# Altium footprint library OASIS_COMPONENTS_FOOTPRINTS.PcbLib: 59 footprints (part 1 of 4)
Each footprint in its own frame and in the unit in brackets; x right, y up, seen from the top. Pads: shape width x height; smd on the part's side, far side on the other; paste and mask are expansions set on the pad; w line width, h text height; cw(c..) or ccw(c..) is an arc to the next point about the centre after c.
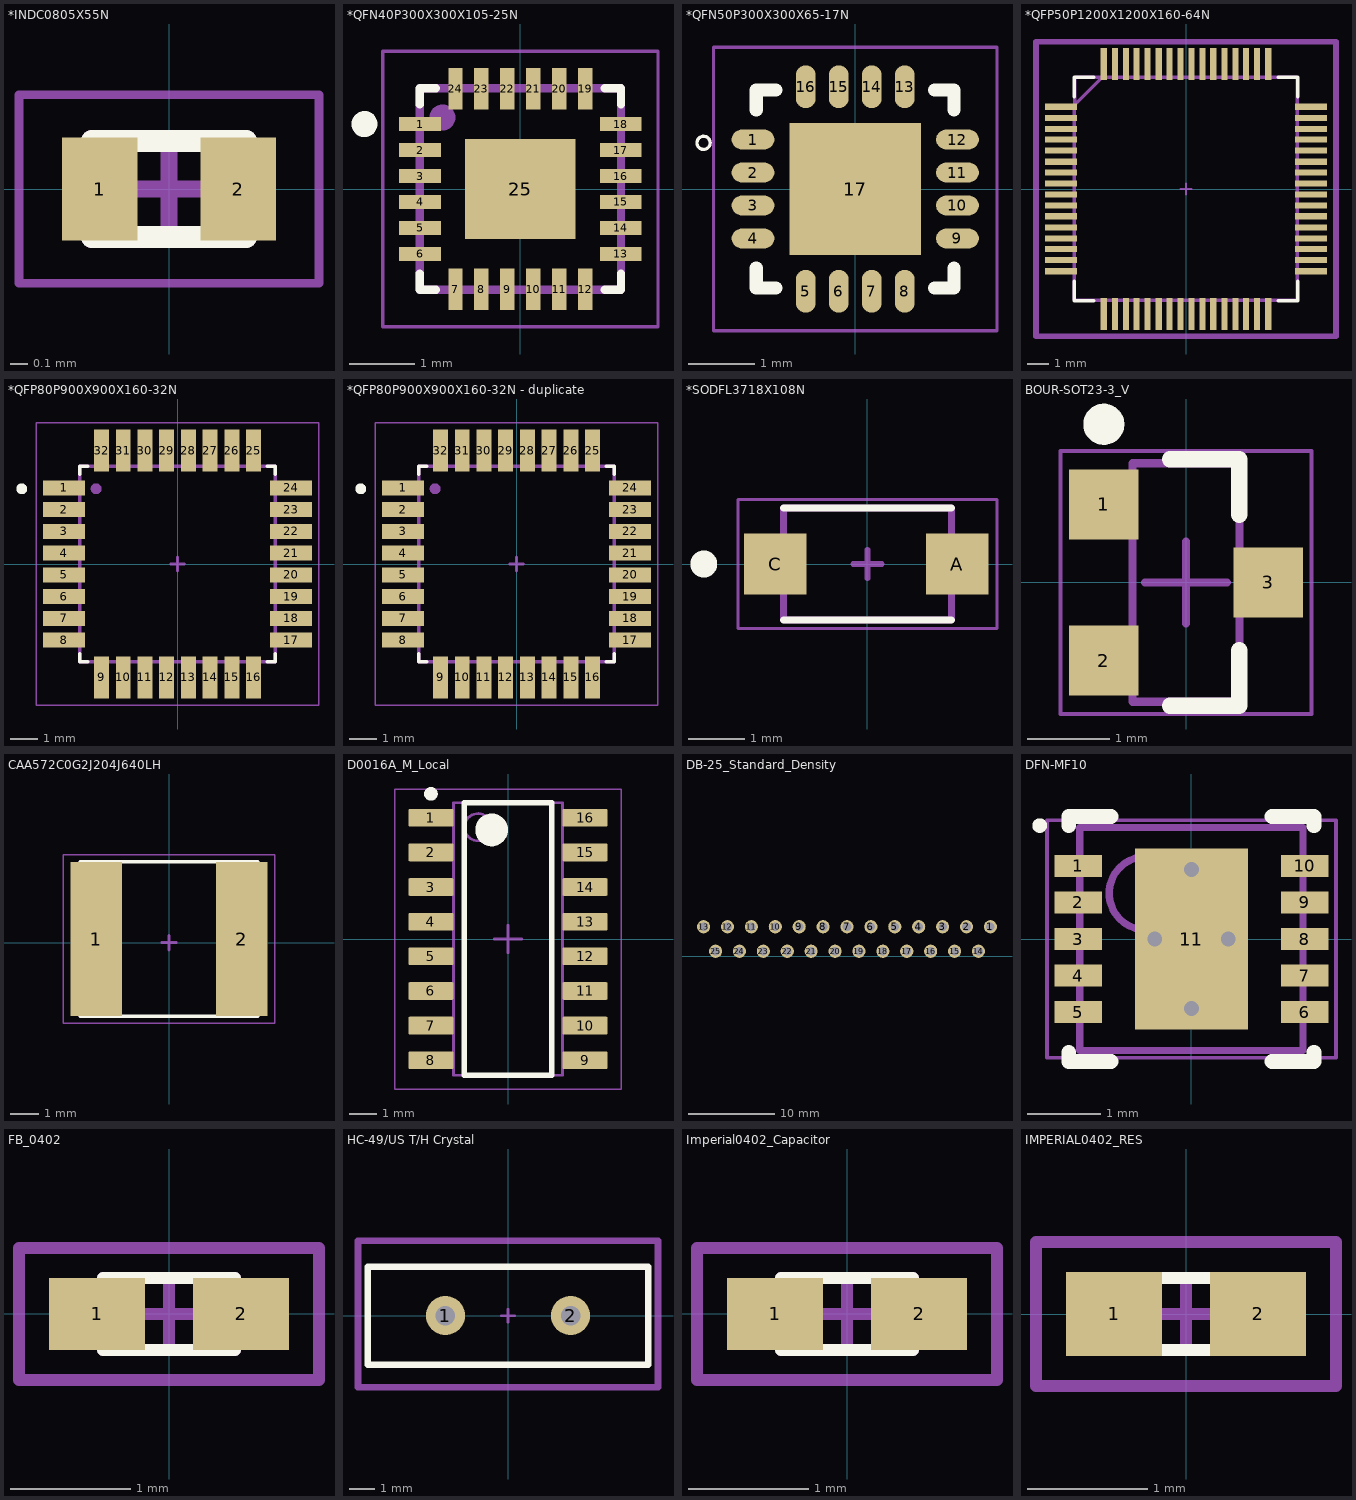
[diagram p0: the footprints below, top view; thin cyan lines are the x and y axes]

## *INDC0805X55N [mm]
pads (2):
  rect 0.44x0.6 smd: 1(-0.405,0) 2(0.405,0)
Top Overlay:
  lines w0.127: -0.45,-0.28 0.45,-0.28 ; -0.45,0.28 0.45,0.28
Bottom 3D Body:
  lines w0.127: -0.45,-0.28 -0.45,0.28 0.45,0.28 0.45,-0.28 -0.45,-0.28
Courtyard:
  lines w0.05: -0.875,-0.55 0.875,-0.55 0.875,0.55 -0.875,0.55 -0.875,-0.55
Component Center:
  lines w0.1: -0.254,0 0.254,0 ; 0,0 0,-0.254 0,0.254
Component Outline:
  lines w0.127: -0.45,-0.28 -0.45,0.28 ; 0.45,-0.28 0.45,0.28
3D body: height 1.1, standoff 0, extent -0.45,-0.28 0.45,0.28

## *QFN40P300X300X105-25N [mm]
pads (25):
  rect 0.64x0.22 smd: 1(-1.545,1) 2(-1.545,0.6) 3(-1.545,0.2) 4(-1.545,-0.2) 5(-1.545,-0.6) 6(-1.545,-1) 13(1.545,-1) 14(1.545,-0.6) 15(1.545,-0.2) 16(1.545,0.2) 17(1.545,0.6) 18(1.545,1)
  rect 0.22x0.64 smd: 7(-1,-1.545) 8(-0.6,-1.545) 9(-0.2,-1.545) 10(0.2,-1.545) 11(0.6,-1.545) 12(1,-1.545) 19(1,1.545) 20(0.6,1.545) 21(0.2,1.545) 22(-0.2,1.545) 23(-0.6,1.545) 24(-1,1.545)
  rect 1.7x1.54 smd: 25(0,0)
Top Overlay:
  circle w0.2: c-2.4,1 r0.1
  lines w0.127: -1.55,-1.3 -1.55,-1.55 -1.3,-1.55 ; -1.55,1.3 -1.55,1.55 -1.3,1.55 ; 1.3,-1.55 1.55,-1.55 1.55,-1.3 ; 1.3,1.55 1.55,1.55 1.55,1.3
Top Paste:
  region: -0.691,0.61 -0.08,0.61 -0.08,0.08 -0.691,0.08
  region: 0.08,0.61 0.69,0.61 0.69,0.08 0.08,0.08
  region: -0.691,-0.08 -0.08,-0.08 -0.08,-0.611 -0.691,-0.611
  region: 0.08,-0.08 0.69,-0.08 0.69,-0.611 0.08,-0.611
Courtyard:
  lines w0.05: -2.12,-2.12 -2.12,2.12 2.12,2.12 2.12,-2.12 -2.12,-2.12
Component Center:
  lines w0.1: -0.254,0 0.254,0 ; 0,0 0,-0.254 0,0.254
Component Outline:
  circle w0.2: c-1.2,1.1 r0.1
  circle w0.2: c-1.2,1.1 r0.1
  lines w0.127: -1.55,-1.55 1.55,-1.55 ; -1.55,-1.55 -1.55,1.55 ; -1.55,-1.55 1.55,-1.55 ; -1.55,-1.55 -1.55,1.55 ; -1.55,1.55 1.55,1.55 ; -1.55,1.55 1.55,1.55 ; 1.55,-1.55 1.55,1.55 ; 1.55,-1.55 1.55,1.55
3D body: height 1.1, standoff 0, extent 5.35,2.425 5.35,2.425
3D body "User Library-MPU9250.step": height 1, standoff -0.05, extent -1.51,-1.525 1.51,1.495

## *QFN50P300X300X65-17N [mm]
pads (17):
  oval 0.65x0.3 smd: 1(-1.55,0.75) 2(-1.55,0.25) 3(-1.55,-0.25) 4(-1.55,-0.75) 9(1.55,-0.75) 10(1.55,-0.25) 11(1.55,0.25) 12(1.55,0.75)
  oval 0.3x0.65 smd: 5(-0.75,-1.55) 6(-0.25,-1.55) 7(0.25,-1.55) 8(0.75,-1.55) 13(0.75,1.55) 14(0.25,1.55) 15(-0.25,1.55) 16(-0.75,1.55)
  rect 2x2 smd: 17(0,0)
Top Overlay:
  circle w0.05: c-2.3,0.7 r0.1
  lines w0.2: -1.5,-1.2 -1.5,-1.5 -1.2,-1.5 ; -1.5,1.2 -1.5,1.5 -1.2,1.5 ; 1.2,-1.5 1.5,-1.5 1.5,-1.2 ; 1.2,1.5 1.5,1.5 1.5,1.2
Courtyard:
  lines w0.05: -2.15,-2.15 -2.15,2.15 2.15,2.15 2.15,-2.15 -2.15,-2.15
Component Center:
  lines w0.1: -0.254,0 0.254,0 ; 0,0 0,-0.254 0,0.254
3D body "User Library-QFN50P300X300-6x2.step": height 1.1, standoff 0, extent -1.5,-1.55 1.5,1.45

## *QFP50P1200X1200X160-64N [mil]
pads (64):
  rect 58x11 smd: 1(-225,148) 2(-225,128) 3(-225,108) 4(-225,89) 5(-225,69) 6(-225,49) 7(-225,30) 8(-225,10) 9(-225,-10) 10(-225,-30) 11(-225,-49) 12(-225,-69) 13(-225,-89) 14(-225,-108) 15(-225,-128) 16(-225,-148) 33(225,-148) 34(225,-128) 35(225,-108) 36(225,-89) 37(225,-69) 38(225,-49) 39(225,-30) 40(225,-10) 41(225,10) 42(225,30) 43(225,49) 44(225,69) 45(225,89) 46(225,108) 47(225,128) 48(225,148)
  rect 11x58 smd: 17(-148,-225) 18(-128,-225) 19(-108,-225) 20(-89,-225) 21(-69,-225) 22(-49,-225) 23(-30,-225) 24(-10,-225) 25(10,-225) 26(30,-225) 27(49,-225) 28(69,-225) 29(89,-225) 30(108,-225) 31(128,-225) 32(148,-225) 49(148,225) 50(128,225) 51(108,225) 52(89,225) 53(69,225) 54(49,225) 55(30,225) 56(10,225) 57(-10,225) 58(-30,225) 59(-49,225) 60(-69,225) 61(-89,225) 62(-108,225) 63(-128,225) 64(-148,225)
Top Overlay:
  lines w6: -201,-166 -201,-201 -166,-201 ; -201,166 -201,201 -166,201 ; 166,-201 201,-201 201,-166 ; 166,201 201,201 201,166
Courtyard:
  lines w10: -270,-265 -270,265 270,265 270,-265 -270,-265
Component Center:
  lines w3.94: -10,0 10,0 ; 0,0 0,-10 0,10
Component Outline:
  lines w5.98: -201,-199 -200,-200 200,-200 200,200 199,201 -151,201 -199,201 -200,200 -200,152 -201,151 -201,-199
  lines w6: -201,151 -151,201
3D body: height 10, standoff 0, extent -64.96,9.84 -64.96,9.84
3D body "User Library-LQFP64-2.STEP": height 63.78, standoff -0.28, extent -239.04,-240.02 239.05,238.06

## *QFP80P900X900X160-32N [mm]
pads (32):
  rect 1.56x0.55 smd: 1(-4.18,2.8) 2(-4.18,2) 3(-4.18,1.2) 4(-4.18,0.4) 5(-4.18,-0.4) 6(-4.18,-1.2) 7(-4.18,-2) 8(-4.18,-2.8) 17(4.18,-2.8) 18(4.18,-2) 19(4.18,-1.2) 20(4.18,-0.4) 21(4.18,0.4) 22(4.18,1.2) 23(4.18,2) 24(4.18,2.8)
  rect 0.55x1.56 smd: 9(-2.8,-4.18) 10(-2,-4.18) 11(-1.2,-4.18) 12(-0.4,-4.18) 13(0.4,-4.18) 14(1.2,-4.18) 15(2,-4.18) 16(2.8,-4.18) 25(2.8,4.18) 26(2,4.18) 27(1.2,4.18) 28(0.4,4.18) 29(-0.4,4.18) 30(-1.2,4.18) 31(-2,4.18) 32(-2.8,4.18)
Top Overlay:
  circle w0.2: c-5.74,2.77 r0.1
  lines w0.127: -3.6,-3.3 -3.6,-3.6 -3.3,-3.6 ; -3.6,3.3 -3.6,3.6 -3.3,3.6 ; 3.3,-3.6 3.6,-3.6 3.6,-3.3 ; 3.3,3.6 3.6,3.6 3.6,3.3
Courtyard:
  lines w0.05: -5.21,-5.21 5.21,-5.21 5.21,5.21 -5.21,5.21 -5.21,-5.21
Component Center:
  lines w0.1: -0.254,0 0.254,0 ; 0,0 0,-0.254 0,0.254
Component Outline:
  circle w0.2: c-3,2.77 r0.1
  lines w0.127: -3.6,-3.6 -3.6,3.6 ; -3.6,-3.6 -3.6,3.6 ; -3.6,-3.6 3.6,-3.6 ; -3.6,-3.6 3.6,-3.6 ; -3.6,3.6 3.6,3.6 ; -3.6,3.6 3.6,3.6 ; 3.6,-3.6 3.6,3.6 ; 3.6,-3.6 3.6,3.6
3D body: height 0.76, standoff 0, extent -3.556,-3.556 3.556,3.556

## *QFP80P900X900X160-32N - duplicate [mm]
pads (32):
  rect 1.56x0.55 smd: 1(-4.18,2.8) 2(-4.18,2) 3(-4.18,1.2) 4(-4.18,0.4) 5(-4.18,-0.4) 6(-4.18,-1.2) 7(-4.18,-2) 8(-4.18,-2.8) 17(4.18,-2.8) 18(4.18,-2) 19(4.18,-1.2) 20(4.18,-0.4) 21(4.18,0.4) 22(4.18,1.2) 23(4.18,2) 24(4.18,2.8)
  rect 0.55x1.56 smd: 9(-2.8,-4.18) 10(-2,-4.18) 11(-1.2,-4.18) 12(-0.4,-4.18) 13(0.4,-4.18) 14(1.2,-4.18) 15(2,-4.18) 16(2.8,-4.18) 25(2.8,4.18) 26(2,4.18) 27(1.2,4.18) 28(0.4,4.18) 29(-0.4,4.18) 30(-1.2,4.18) 31(-2,4.18) 32(-2.8,4.18)
Top Overlay:
  circle w0.2: c-5.74,2.77 r0.1
  lines w0.127: -3.6,-3.3 -3.6,-3.6 -3.3,-3.6 ; -3.6,3.3 -3.6,3.6 -3.3,3.6 ; 3.3,-3.6 3.6,-3.6 3.6,-3.3 ; 3.3,3.6 3.6,3.6 3.6,3.3
Bottom 3D Body:
  circle w0.2: c-3,2.77 r0.1
Courtyard:
  lines w0.05: -5.21,-5.21 5.21,-5.21 5.21,5.21 -5.21,5.21 -5.21,-5.21
Component Center:
  lines w0.1: -0.254,0 0.254,0 ; 0,0 0,-0.254 0,0.254
Component Outline:
  circle w0.2: c-3,2.77 r0.1
  lines w0.127: -3.6,-3.6 -3.6,3.6 ; -3.6,-3.6 -3.6,3.6 ; -3.6,-3.6 3.6,-3.6 ; -3.6,-3.6 3.6,-3.6 ; -3.6,3.6 3.6,3.6 ; -3.6,3.6 3.6,3.6 ; 3.6,-3.6 3.6,3.6 ; 3.6,-3.6 3.6,3.6
3D body: height 1.1, standoff 0, extent -3.6,-3.6 3.6,3.6

## *SODFL3718X108N [mm]
pads (2):
  rect 1.12x1.08 smd: A(1.6,0) C(-1.645,0)
Top Overlay:
  circle w0.24: c-2.921,0 r0.12
  lines w0.127: -1.5,-1 1.5,-1 ; -1.5,1 1.5,1
Courtyard:
  lines w0.05: -2.31,-1.15 2.31,-1.15 2.31,1.15 -2.31,1.15 -2.31,-1.15
Component Center:
  lines w0.1: -0.254,0 0.254,0 ; 0,0 0,-0.254 0,0.254
Component Outline:
  lines w0.127: -1.5,-1 -1.5,1 1.5,1 1.5,-1 -1.5,-1
3D body: height 0.97, standoff 0, extent -1.524,-1.016 -1.143,1.016
3D body: height 0.97, standoff 0, extent -1.143,-1.016 1.524,1.016

## BOUR-SOT23-3_V [mm] "SOT23, 3-Leads, Body 2.9x1.3mm, Pitch 0.95mm"
height 1.17
pads (3):
  rect 0.85x0.85 smd: 1(-1,0.95) 2(-1,-0.95) 3(1,0)
Top Overlay:
  circle w0.25: c-1,1.925 r0.125
  lines w0.2: -0.195,-1.5 0.65,-1.5 0.65,-0.825 ; -0.195,1.5 0.65,1.5 0.65,0.825
Courtyard:
  lines w0.05: -1.525,-1.6 -1.525,1.6 1.525,1.6 1.525,-1.6 -1.525,-1.6
Component Center:
  lines w0.1: -0.5,0 0.5,0 ; 0,-0.5 0,0.5
Component Outline:
  lines w0.1: -0.65,-1.45 -0.65,1.45 0.65,1.45 0.65,-1.45 -0.65,-1.45
3D body: height 1.17, standoff 0.02, extent -0.65,-1.45 0.65,1.45

## CAA572C0G2J204J640LH [mm] "2220 Footprint for CAA572C0G2J204J640LH"
pads (2):
  rect 1.81x5.41 smd: 1(-2.55,0.127) 2(2.55,0.127)
Top Overlay:
  lines w0.127: -1.33,-2.573 1.33,-2.573 ; -1.33,2.827 1.33,2.827 ; -3.1,-2.573 3.1,-2.573 -3.1,-2.573 ; -3.1,2.827 3.1,2.827 -3.1,2.827
Bottom 3D Body:
  lines w0.127: -3.1,-2.573 -3.1,2.827 -3.1,-2.573 ; 3.1,-2.573 3.1,2.827 3.1,-2.573
Courtyard:
  lines w0.05: -3.703,-2.827 3.703,-2.827 3.703,3.081 -3.703,3.081 -3.703,-2.827
Component Center:
  lines w0.1: -0.254,0 0.254,0 ; 0,0 0,-0.254 0,0.254

## D0016A_M_Local [mm] "SOIC, 16-Leads, Body 10x4mm, Pitch 1.27mm, IPC Low Density"
height 1.75
pads (16):
  rrect15% 1.65x0.65 smd: 1(-2.825,4.445) 2(-2.825,3.175) 3(-2.825,1.905) 4(-2.825,0.635) 5(-2.825,-0.635) 6(-2.825,-1.905) 7(-2.825,-3.175) 8(-2.825,-4.445) 9(2.825,-4.445) 10(2.825,-3.175) 11(2.825,-1.905) 12(2.825,-0.635) 13(2.825,0.635) 14(2.825,1.905) 15(2.825,3.175) 16(2.825,4.445)
Top Overlay:
  circle w0.6: c-0.6,4 r0.3
  circle w0.25: c-2.825,5.32 r0.125
  lines w0.2: -1.6,-5 1.6,-5 1.6,5 -1.6,5 -1.6,-5
  text ".Designator" at -3.937,6.35 h0.8
Courtyard:
  lines w0.05: -4.15,-5.5 4.15,-5.5 4.15,5.5 -4.15,5.5 -4.15,-5.5
Component Center:
  lines w0.1: -0.5,0 0.5,0 ; 0,-0.5 0,0.5
Component Outline:
  circle w0.1: c-1.1,4.1 r0.5
  lines w0.1: -2,-5 -2,5 2,5 2,-5 -2,-5
3D body "SOIC-16akaD0016AakaM16A.stp": height 1.59, standoff -0.01, extent -2.997,-4.953 2.997,4.953

## DB-25_Standard_Density [mm] "Right angle DB-25 standard density connector"
pads (25):
  round 1.524 hole 1: 1(43.14,3.42) 2(40.37,3.42) 3(37.6,3.42) 4(34.83,3.42) 5(32.06,3.42) 6(29.29,3.42) 7(26.52,3.42) 8(23.75,3.42) 9(20.98,3.42) 10(18.21,3.42) 11(15.44,3.42) 12(12.67,3.42) 13(9.9,3.42) 14(41.755,0.58) 15(38.985,0.58) 16(36.215,0.58) 17(33.445,0.58) 18(30.675,0.58) 19(27.905,0.58) 20(25.135,0.58) 21(22.365,0.58) 22(19.595,0.58) 23(16.825,0.58) 24(14.055,0.58) 25(11.285,0.58)

## DFN-MF10 [mm] "SON, 10-Leads, Body 3x3mm, Pitch 0.5mm, Microchip Recommended"
height 1
pads (11):
  rect 0.65x0.3 smd: 1(-1.55,1) 2(-1.55,0.5) 3(-1.55,0) 4(-1.55,-0.5) 5(-1.55,-1) 6(1.55,-1) 7(1.55,-0.5) 8(1.55,0) 9(1.55,0.5) 10(1.55,1)
  rect 1.55x2.48 smd: 11(0,0)
via 0,-0.95 diameter 0.5 hole 0.2
via 0,0.95 diameter 0.5 hole 0.2
via 0.5,0 diameter 0.5 hole 0.2
via -0.5,0 diameter 0.5 hole 0.2
Top Overlay:
  circle w0.1: c-2.075,1.55 r0.05
  lines w0.2: -1.675,-1.55 -1.675,-1.675 -1.1,-1.675 ; -1.675,1.55 -1.675,1.675 -1.1,1.675 ; 1.1,-1.675 1.675,-1.675 1.675,-1.55 ; 1.1,1.675 1.675,1.675 1.675,1.55
Courtyard:
  lines w0.05: -1.975,-1.625 1.975,-1.625 1.975,1.625 -1.975,1.625 -1.975,-1.625
Component Center:
  lines w0.1: -0.254,0 0.254,0 0,0 0,-0.254 0,0.254
Component Outline:
  circle w0.1: c-0.625,0.625 r0.5
  lines w0.1: -1.525,-1.525 -1.525,1.525 1.525,1.525 1.525,-1.525 -1.525,-1.525
3D body: height 1, standoff 0, extent -1.524,-1.524 1.524,1.524

## FB_0402 [mm] "Ferrite Bead, Body 1.0x0.5mm, IPC Medium Density"
height 0.6
pads (2):
  rect 0.8x0.6 smd: 1(-0.6,0) 2(0.6,0)
Top Overlay:
  lines w0.1: -0.55,-0.3 0.55,-0.3 ; -0.55,0.3 0.55,0.3
Courtyard:
  lines w0.1: -1.25,-0.55 -1.25,0.55 1.25,0.55 1.25,-0.55 -1.25,-0.55
Component Center:
  lines w0.1: -0.3,0 0.3,0 ; 0,-0.3 0,0.3
Component Outline:
  lines w0.1: -0.55,-0.3 -0.55,0.3 0.55,0.3 0.55,-0.3 -0.55,-0.3
3D body: height 0.6, standoff 0, extent -0.55,-0.3 0.55,0.3

## HC-49/US T/H Crystal [mil]
height 144.88
pads (2):
  round 60 hole 30: 1(-96.06,0) 2(96.06,0)
Top Overlay:
  lines w10: -215,-75 -215,75 215,75 215,-75 0,-75 -215,-75
Courtyard:
  lines w10: -230,-110 -230,115 -215,115 230,115 230,-110 -230,-110
Component Center:
  lines w3.94: -10,0 10,0 ; 0,0 0,-10 0,10
3D body "Crystal_HC49-4H_Vertical.step": height 161.42, standoff -114.17, extent -217.52,-91.54 217.52,91.54

## Imperial0402_Capacitor [mm] "Imperial 0402 Capacitor"
height 0.6
pads (2):
  rect 0.8x0.6 smd: 1(-0.6,0) 2(0.6,0)
Top Overlay:
  lines w0.1: -0.55,-0.3 0.55,-0.3 ; -0.55,0.3 0.55,0.3
Courtyard:
  lines w0.1: -1.25,-0.55 -1.25,0.55 1.25,0.55 1.25,-0.55 -1.25,-0.55
Component Center:
  lines w0.1: -0.3,0 0.3,0 ; 0,-0.3 0,0.3
Component Outline:
  lines w0.1: -0.55,-0.3 -0.55,0.3 0.55,0.3 0.55,-0.3 -0.55,-0.3
3D body: height 0.6, standoff 0, extent -0.55,-0.3 0.55,0.3

## IMPERIAL0402_RES [mm] "Chip Resistor, Body 1.1x0.5mm, IPC Medium Density"
height 0.4
pads (2):
  rect 0.8x0.7 smd: 1(-0.6,0) 2(0.6,0)
Top Overlay:
  lines w0.1: -0.55,-0.3 0.55,-0.3 ; -0.55,0.3 0.55,0.3
Courtyard:
  lines w0.1: -1.25,-0.6 -1.25,0.6 1.25,0.6 1.25,-0.6 -1.25,-0.6
Component Center:
  lines w0.1: -0.3,0 0.3,0 ; 0,-0.3 0,0.3
Component Outline:
  lines w0.1: -0.55,-0.3 -0.55,0.3 0.55,0.3 0.55,-0.3 -0.55,-0.3
3D body: height 0.4, standoff 0, extent -0.55,-0.3 0.55,0.3